# Altium footprint library SAMESKY_UJ20-C-H-G-SMT-1-P16-TR.PcbLib: 1 footprints
Each footprint in its own frame and in the unit in brackets; x right, y up, seen from the top. Pads: shape width x height; smd on the part's side, far side on the other; paste and mask are expansions set on the pad; w line width, h text height; cw(c..) or ccw(c..) is an arc to the next point about the centre after c.
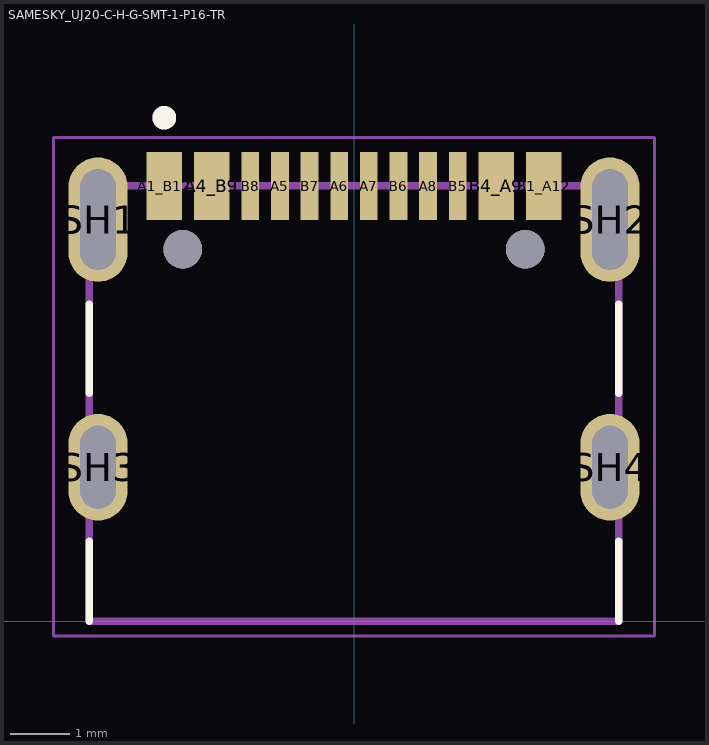
[diagram p0: the footprint, top view; thin cyan lines are the x and y axes]

## SAMESKY_UJ20-C-H-G-SMT-1-P16-TR [mm]
height 3.46
pads (18):
  rect 0.6x1.15 smd: A1_B12(-3.2,7.345) A4_B9(-2.4,7.345) B1_A12(3.2,7.345) B4_A9(2.4,7.345)
  rect 0.3x1.15 smd: A5(-1.25,7.345) A6(-0.25,7.345) A7(0.25,7.345) A8(1.25,7.345) B5(1.75,7.345) B6(0.75,7.345) B7(-0.75,7.345) B8(-1.75,7.345)
  oval 1x2.1 hole 0.6 slot 1.7 at 90 deg: SH1(-4.32,6.78) SH2(4.32,6.78)
  oval 1x1.8 hole 0.6 slot 1.4 at 90 deg: SH3(-4.32,2.6) SH4(4.32,2.6)
  round 0.65 hole 0.65 unplated: ""(-2.89,6.28) ""(2.89,6.28)
Top Overlay:
  circle w0.2: c-3.2,8.5 r0.1
  lines w0.127: -4.47,0 -4.47,1.35 ; -4.47,3.85 -4.47,5.35 ; 4.47,0 4.47,1.35 ; 4.47,3.85 4.47,5.35
Assembly Top:
  circle w0.2: c-3.2,8.5 r0.1
  lines w0.127: -4.47,0 -4.47,7.35 4.47,7.35 4.47,0 -4.47,0
Courtyard Top:
  lines w0.05: -5.07,-0.25 -5.07,8.17 5.07,8.17 5.07,-0.25 -5.07,-0.25
3D body "step_temp.STEP": height 3.31, standoff -0.96, extent -4.47,0 4.47,7.6